# Altium footprint library CONN_3.5MM_COMBO.PcbLib: 1 footprints
Each footprint in its own frame and in the unit in brackets; x right, y up, seen from the top. Pads: shape width x height; smd on the part's side, far side on the other; paste and mask are expansions set on the pad; w line width, h text height; cw(c..) or ccw(c..) is an arc to the next point about the centre after c.
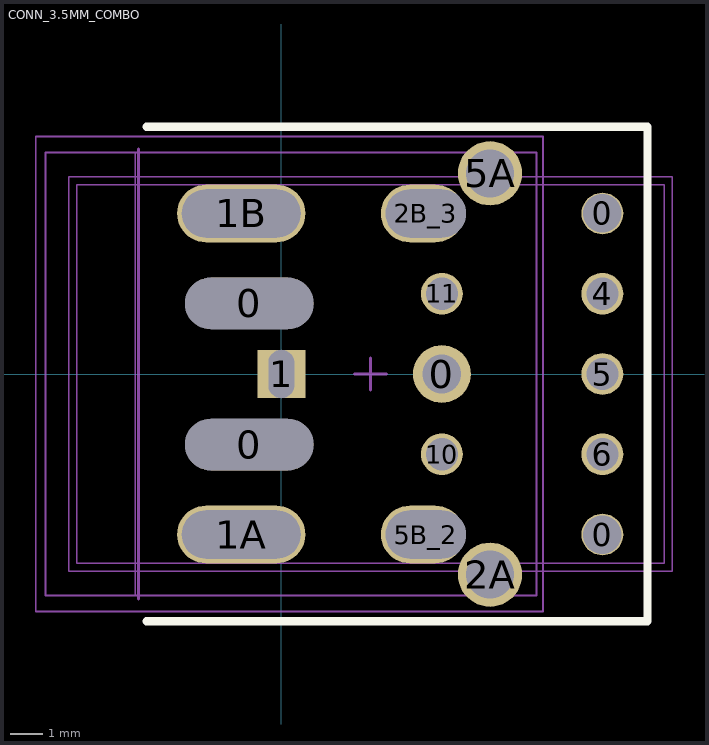
[diagram p0: the footprint, top view; thin cyan lines are the x and y axes]

## CONN_3.5MM_COMBO [mm]
pads (17):
  oval 4x1.6 hole 1.6 slot 4 at 0 deg unplated: 0(-1,-2.2) 0(-1,2.2)
  round 1.8 hole 1.2: 0(5,0)
  round 1.3 hole 1.2: 0(10,-5) 0(10,5)
  rect 1.5x1.5 hole 0.8 slot 1.5 at 90 deg: 1(0,0)
  oval 4x1.8 hole 1.5 slot 3.7 at 0 deg: 1A(-1.25,-5) 1B(-1.25,5)
  round 2 hole 1.5: 2A(6.5,-6.25) 5A(6.5,6.25)
  oval 2.6x1.8 hole 1.5 slot 2.5 at 0 deg copper offset -0.1,0: 2B_3(4.5,5) 5B_2(4.5,-5)
  round 1.3 hole 1: 4(10,2.5) 5(10,0) 6(10,-2.5) 10(5,-2.5) 11(5,2.5)
Top Overlay:
  lines w0.254: -4.2,-7.7 11.4,-7.7 11.4,7.7 -4.2,7.7
Mechanical 1:
  lines w0.1: -4.45,-7 -4.45,7
  text "PCB Edge" at -4.057,1.547 h0.76
Top Assembly:
  lines w0.05: -7.348,-6.898 -4.552,-6.898 -4.552,6.898 -7.348,6.898 ; -7.348,-6.898 -7.348,6.898 ; -7.348,-6.898 7.948,-6.898 7.948,6.898 -7.348,6.898 ; -7.348,-6.898 -7.348,6.898 ; -6.373,-5.898 11.923,-5.898 11.923,5.898 -6.373,5.898 -6.373,-5.898
  lines w0.1: -4.45,-7 -4.45,7
  text "PCB Edge" at -4.057,1.547 h0.76
  text ".Designator" at -3.1,-0.423 h2
Top Courtyard:
  lines w0.05: -7.648,-7.398 8.148,-7.398 8.148,7.398 -7.648,7.398 -7.648,-7.398 ; -6.623,-6.148 12.173,-6.148 12.173,6.148 -6.623,6.148 -6.623,-6.148
  lines w0.1: 2.275,0 3.275,0 ; 2.775,-0.5 2.775,0.5
3D body "STX-4235-3_3_N_rA4.STEP": height 26.01, standoff -3.98, extent -7.5,-7 8,7
3D body "CONN_JACK_STEREO_3.5MM_SPDT_RA.step": height 5.51, standoff -3.29, extent -6.5,-6 12,6